# Altium footprint library PcbLib1.PcbLib: 25 footprints (part 1 of 2)
Each footprint in its own frame and in the unit in brackets; x right, y up, seen from the top. Pads: shape width x height; smd on the part's side, far side on the other; paste and mask are expansions set on the pad; w line width, h text height; cw(c..) or ccw(c..) is an arc to the next point about the centre after c.
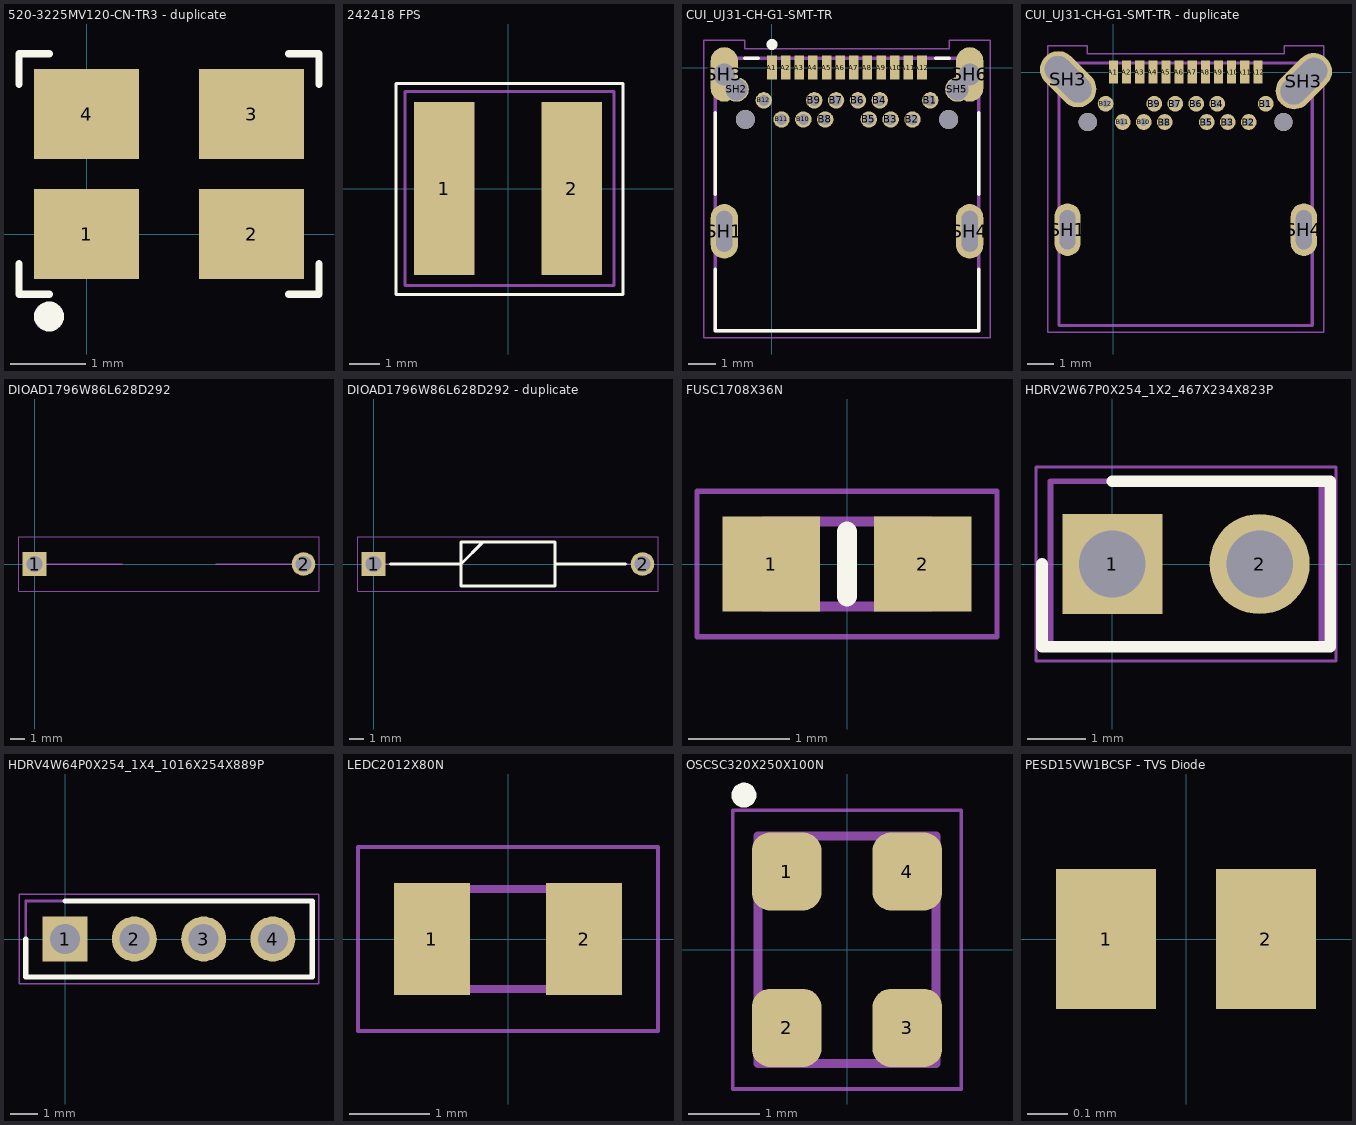
[diagram p0: the footprints below, top view; thin cyan lines are the x and y axes]

## 520-3225MV120-CN-TR3 [mm] "12 MHz Oscillator"

## 520-3225MV120-CN-TR3 - duplicate [mm]
pads (4):
  rect 1.4x1.2 smd: 1(0,0) 2(2.2,0) 3(2.2,1.6) 4(0,1.6)
Top Overlay:
  circle w0.2: c-0.5,-1.1 r0.1
  lines w0.1: -0.9,-0.4 -0.9,-0.8 -0.5,-0.8 ; -0.9,2 -0.9,2.4 -0.5,2.4 ; 2.7,-0.8 3.1,-0.8 3.1,-0.4 ; 2.7,2.4 3.1,2.4 3.1,2
3D body: height 1.2, standoff 0, extent -0.8,-0.7 3,2.3

## 242418 FPS [mm]
pads (2):
  rect 2x5.7 smd: 1(-2.1,0) 2(2.1,0)
Top Overlay:
  lines w0.1: -3.7,-3.5 -3.7,2.408 -3.7,3.469 3.8,3.469 3.8,-3.5 -3.7,-3.5
Mechanical 1:
  lines w0.1: -3.4,-3.2 -3.4,3.2 3.5,3.2 3.5,-3.2 -3.4,-3.2

## 242418FPS-221M-01 [mm] "220 uH Inductor"

## CUI_UJ31-CH-G1-SMT-TR [mm]
pads (32):
  rect 0.35x0.89 smd: A1(0,0) A2(0.5,0) A3(1,0) A4(1.5,0) A5(2,0) A6(2.5,0) A7(3,0) A8(3.5,0) A9(4,0) A10(4.5,0) A11(5,0) A12(5.5,0)
  round 0.6 hole 0.4: B1(5.8,-1.205) B2(5.15,-1.905) B3(4.35,-1.905) B4(3.95,-1.205) B5(3.55,-1.905) B6(3.15,-1.205) B7(2.35,-1.205) B8(1.95,-1.905) B9(1.55,-1.205) B10(1.15,-1.905) B11(0.35,-1.905) B12(-0.3,-1.205)
  oval 1x2 hole 0.6 slot 1.5 at 90 deg: SH1(-1.75,-6.005) SH4(7.25,-6.005)
  round 0.9 hole 0.8: SH2(-1.3,-0.805) SH5(6.8,-0.805)
  oval 1x2 hole 0.8: SH3(-1.75,-0.255) SH6(7.25,-0.255)
  round 0.7 hole 0.7 unplated: ""(-0.975,-1.905) ""(6.475,-1.905)
Top Overlay:
  circle w0.2: c0,0.845 r0.1
  lines w0.127: -2.075,-7.405 -2.075,-9.655 7.575,-9.655 7.575,-7.405 ; -2.075,-4.655 -2.075,-1.655 ; -1,0.345 -0.5,0.345 ; 6,0.345 6.5,0.345 ; 7.575,-4.655 7.575,-1.655
Top Solder:
  lines w0.2: -1.7,-0.4 -1.7,-0.275
Mechanical 1:
  lines w0: -2.05,-0.805 -2.05,-0.055 cw(c-1.75,-0.055) -1.45,-0.055 -1.45,-0.555 -1.3,-0.555 cw(c-1.3,-0.805) -1.3,-1.055 -1.75,-1.055 ; -2.05,-0.804 ccw(c-1.775,-0.78) -1.751,-1.055 ; 7.55,-0.805 7.55,-0.055 ccw(c7.25,-0.055) 6.95,-0.055 6.95,-0.555 6.8,-0.555 ccw(c6.8,-0.805) 6.8,-1.055 7.25,-1.055 ccw(c7.275,-0.78) 7.55,-0.804
Mechanical 13:
  lines w0.127: -2.075,-9.655 7.575,-9.655 7.575,0.345 -2.075,0.345 -2.075,-9.655
Mechanical 15:
  lines w0.05: -2.5,-9.905 8,-9.905 8,0.995 6.5,0.995 6.5,0.695 -1,0.695 -1,0.995 -2.5,0.995 -2.5,-9.905

## CUI_UJ31-CH-G1-SMT-TR - duplicate [mm]
pads (30):
  rect 0.35x0.89 smd: A1(0,0) A2(0.5,0) A3(1,0) A4(1.5,0) A5(2,0) A6(2.5,0) A7(3,0) A8(3.5,0) A9(4,0) A10(4.5,0) A11(5,0) A12(5.5,0)
  round 0.6 hole 0.3: B1(5.8,-1.205) B2(5.15,-1.905) B3(4.35,-1.905) B4(3.95,-1.205) B5(3.55,-1.905) B6(3.15,-1.205) B7(2.35,-1.205) B8(1.95,-1.905) B9(1.55,-1.205) B10(1.15,-1.905) B11(0.35,-1.905) B12(-0.3,-1.205)
  oval 1x2 hole 0.6 slot 1.5 at 90 deg: SH1(-1.75,-6.005) SH4(7.25,-6.005)
  oval 2.45x1.4 / inner oval 2x1 / far side oval 2x1 hole 1 slot 2.1 at 135 deg rot 135: SH3(-1.725,-0.275)
  oval 2.45x1.4 / inner oval 2x1 / far side oval 2x1 hole 1 slot 2.1 at 45 deg rot 45: SH3(7.25,-0.35)
  round 0.7 hole 0.7 unplated: ""(-0.975,-1.905) ""(6.475,-1.905)
Top Solder:
  lines w0.2: -1.7,-0.4 -1.7,-0.275
Mechanical 1:
  lines w0: -2.05,-0.805 -2.05,-0.055 cw(c-1.75,-0.055) -1.45,-0.055 -1.45,-0.555 -1.3,-0.555 cw(c-1.3,-0.805) -1.3,-1.055 -1.75,-1.055 ; -2.05,-0.804 ccw(c-1.775,-0.78) -1.751,-1.055 ; 7.55,-0.805 7.55,-0.055 ccw(c7.25,-0.055) 6.95,-0.055 6.95,-0.555 6.8,-0.555 ccw(c6.8,-0.805) 6.8,-1.055 7.25,-1.055 ccw(c7.275,-0.78) 7.55,-0.804
Mechanical 13:
  lines w0.127: -2.075,-9.655 7.575,-9.655 7.575,0.345 -2.075,0.345 -2.075,-9.655
Mechanical 15:
  lines w0.05: -2.5,-9.905 -2.5,0.995 -1,0.995 -1,0.695 6.5,0.695 6.5,0.995 8,0.995 8,-9.905 -2.5,-9.905

## DIOAD1796W86L628D292 [mm]
pads (2):
  rect 1.575x1.575 hole 1.05: 1(0,0)
  round 1.575 hole 1.05: 2(18,0)
Mechanical 13:
  lines w0.1: 0,0 5.858,0 ; 12.142,0 18,0
Mechanical 15:
  lines w0.05: -1.038,-1.81 -1.038,1.81 19.037,1.81 19.037,-1.81 -1.038,-1.81
3D body "1N5819.stp": height 3.04, standoff -3.05, extent -0.427,-1.522 18.395,1.522

## DIOAD1796W86L628D292 - duplicate [mm]
pads (2):
  rect 1.575x1.575 hole 1.05: 1(0,0)
  round 1.575 hole 1.05: 2(18,0)
Top Overlay:
  lines w0.2: 1.138,0 5.858,0 7.318,1.46 ; 12.142,0 16.862,0 ; 5.858,-1.46 12.142,-1.46 12.142,1.46 5.858,1.46 5.858,-1.46
Mechanical 13:
  lines w0.1: 0,0 5.858,0 7.318,1.46 ; 12.142,0 18,0 ; 5.858,-1.46 12.143,-1.46 12.143,1.46 5.858,1.46 5.858,-1.46
Mechanical 15:
  lines w0.05: -1.038,-1.81 19.037,-1.81 19.037,1.81 -1.038,1.81 -1.038,-1.81
3D body "1N5819.stp": height 3.04, standoff -3.05, extent -0.427,-1.522 18.395,1.522

## FUSC1708X36N [mm]
pads (2):
  rect 0.97x0.94 smd: 1(-0.75,0) 2(0.75,0)
Top Overlay:
  lines w0.2: 0,-0.32 0,0.32
Mechanical 13:
  lines w0.1: -0.83,-0.42 -0.83,0.42 0.83,0.42 0.83,-0.42 -0.83,-0.42
Mechanical 15:
  lines w0.05: -1.485,-0.72 -1.485,0.72 1.485,0.72 1.485,-0.72 -1.485,-0.72
3D body "PGB1010603NR.stp": height 0.36, standoff 0, extent -0.83,-0.42 0.83,0.42

## HDRV2W67P0X254_1X2_467X234X823P [mm]
pads (2):
  rect 1.725x1.725 hole 1.15: 1(0,0)
  round 1.725 hole 1.15: 2(2.54,0)
Top Overlay:
  lines w0.2: -1.212,0 -1.212,-1.425 3.753,-1.425 3.753,1.425 0,1.425
Mechanical 13:
  lines w0.1: -1.065,-1.425 -1.065,1.425 3.605,1.425 3.605,-1.425 -1.065,-1.425
Mechanical 15:
  lines w0.05: -1.315,-1.675 -1.315,1.675 3.855,1.675 3.855,-1.675 -1.315,-1.675
3D body "5-146277-2.stp": height 8.12, standoff -3.05, extent -1.067,-1.168 3.607,1.168

## HDRV4W64P0X254_1X4_1016X254X889P [mm]
pads (4):
  rect 1.65x1.65 hole 1.1: 1(0,0)
  round 1.65 hole 1.1: 2(2.54,0) 3(5.08,0) 4(7.62,0)
Top Overlay:
  lines w0.2: -1.445,0 -1.445,-1.395 9.065,-1.395 9.065,1.395 0,1.395
Mechanical 13:
  lines w0.1: -1.445,-1.395 9.065,-1.395 9.065,1.395 -1.445,1.395 -1.445,-1.395
Mechanical 15:
  lines w0.05: -1.695,-1.645 9.315,-1.645 9.315,1.645 -1.695,1.645 -1.695,-1.645
3D body "M20-9990446.stp": height 8.89, standoff -3.25, extent -1.27,-1.27 8.89,1.27

## LEDC2012X80N [mm]
pads (2):
  rect 0.95x1.4 smd: 1(-0.95,0) 2(0.95,0)
Mechanical 13:
  lines w0.1: -1,0.208 -0.583,0.625 ; -1,-0.625 -1,0.625 1,0.625 1,-0.625 -1,-0.625
Mechanical 15:
  lines w0.05: -1.875,-1.15 -1.875,1.15 1.875,1.15 1.875,-1.15 -1.875,-1.15
3D body "HSMG-C170.stp": height 0.8, standoff 0, extent -1,-0.625 1,0.625

## OSCSC320X250X100N [mm]
pads (4):
  rrect53% 0.98x1.1 smd: 1(-0.85,1.1) 2(-0.85,-1.1) 3(0.85,-1.1) 4(0.85,1.1)
Top Overlay:
  circle w0.178: c-1.45,2.175 r0.086
Mechanical 13:
  lines w0.127: -1.25,-1.6 -1.25,1.6 1.25,1.6 1.25,-1.6 -1.25,-1.6
Mechanical 15:
  lines w0.05: -1.61,-1.96 -1.61,1.96 1.61,1.96 1.61,-1.96 -1.61,-1.96

## PCBComponent_1 [mm]

## PESD15VW1BCSF [mm] "TVS Diode"

## PESD15VW1BCSF - TVS Diode [mm]
pads (2):
  rect 0.25x0.35 smd: 1(-0.2,0) 2(0.2,0)